# Altium footprint library LMK1D2102RGTR.PcbLib: 1 footprints
Each footprint in its own frame and in the unit in brackets; x right, y up, seen from the top. Pads: shape width x height; smd on the part's side, far side on the other; paste and mask are expansions set on the pad; w line width, h text height; cw(c..) or ccw(c..) is an arc to the next point about the centre after c.
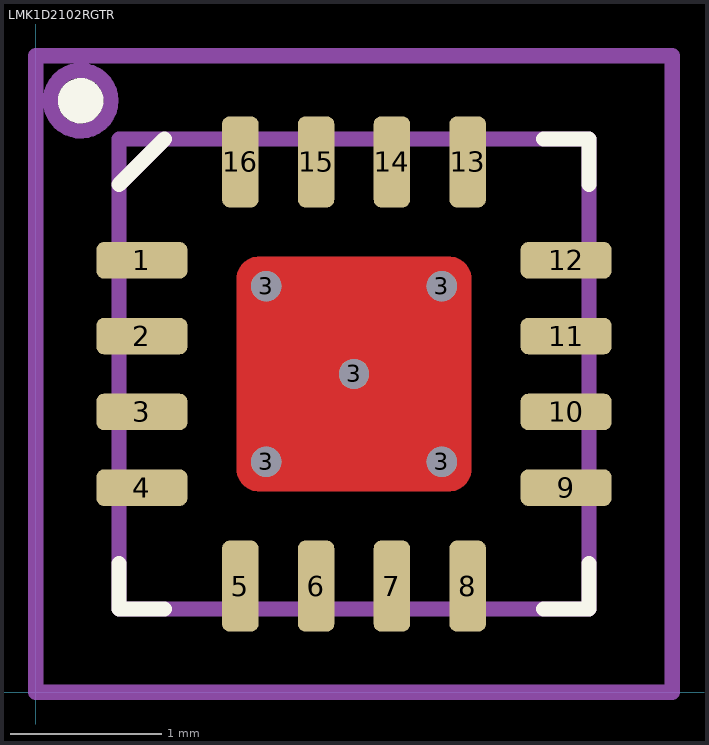
[diagram p0: the footprint, top view; thin cyan lines are the x and y axes]

## LMK1D2102RGTR [mm] "Clock Buffer 1:2 LVDS OUTPUT Texas Instruments / VQFN NO LEAD"
height 1
pads (22):
  rrect40% 0.6x0.24 smd: 1(0.7,2.85) 2(0.7,2.35) 3(0.7,1.85) 4(0.7,1.35) 9(3.5,1.35) 10(3.5,1.85) 11(3.5,2.35) 12(3.5,2.85)
  round 0.2 hole 0.2: 3(1.52,1.52) 3(1.52,2.68) 3(2.1,2.1) 3(2.68,1.52) 3(2.68,2.68)
  rrect40% 0.24x0.6 smd: 5(1.35,0.7) 6(1.85,0.7) 7(2.35,0.7) 8(2.85,0.7) 13(2.85,3.5) 14(2.35,3.5) 15(1.85,3.5) 16(1.35,3.5)
  round 0.025 smd: DAP(2.1,2.1)
Top Layer:
  region: 1.325,1.478 1.325,2.722 1.325,2.737 1.331,2.767 1.342,2.794 1.359,2.82 1.38,2.841 1.406,2.858 1.433,2.869 1.463,2.875 1.478,2.875 2.722,2.875 2.737,2.875 2.767,2.869 2.794,2.858 2.82,2.841 2.841,2.82 2.858,2.794 2.869,2.767 2.875,2.737 2.875,2.722 2.875,1.478 2.875,1.463 2.869,1.433 2.858,1.406 2.841,1.38 2.82,1.359 2.794,1.342 2.767,1.331 2.737,1.325 2.722,1.325 1.478,1.325 1.463,1.325 1.433,1.331 1.406,1.342 1.38,1.359 1.359,1.38 1.342,1.406 1.331,1.433 1.325,1.463
Top Overlay:
  circle w0.2: c0.296,3.904 r0.05
  lines w0.1: 0.55,0.85 0.55,0.55 0.85,0.55 ; 0.55,3.35 0.85,3.65 ; 3.35,0.55 3.65,0.55 3.65,0.85 ; 3.35,3.65 3.65,3.65 3.65,3.35
Top 3D Body:
  lines w0.01: 1.719,2.1 1.719,2.1 ; 2.1,2.481 2.1,2.481
  lines w0.1: 1.8,2.1 2.4,2.1 ; 2.1,1.8 2.1,2.4 ; 0.55,0.55 0.55,3.65 3.65,3.65 3.65,0.55 0.55,0.55
Top Assembly:
  circle w0.1: c0.296,3.904 r0.2
  lines w0.01: 0.55,0.551 0.558,0.543 ; 0.55,3.65 0.554,3.646 ; 0.847,3.646 0.847,3.65 ; 3.643,0.543 3.647,0.547 ; 3.647,3.642 3.652,3.646
  lines w0.1: 0.55,3.35 0.85,3.65 ; 0.55,3.35 0.85,3.65 ; 0.55,3.35 0.55,0.55 3.65,0.55 3.65,3.65 0.85,3.65
  text ".Designator" at 0.322,0.314 h1.5
Courtyard:
  lines w0.1: 0,0 0,2.1 0,4.2 2.1,4.2 4.2,4.2 4.2,2.1 4.2,0 2.1,0 0,0
3D body: height 1, standoff 0, extent 0.55,0.55 3.65,3.65